# EAGLE library part LP4EE1RBATG (library other)
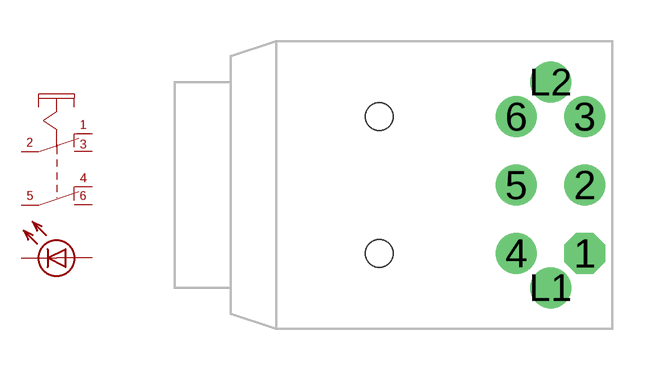
[diagram p12: symbol with the pads of LP4; footprint LP4]

Designator prefix SB

## LP4EE1RBATG  [LP4]
1  1  pas
2  2  pas
3  3  pas
4  4  pas
5  5  pas
6  6  pas
L1  L1  pas
L2  L2  pas

## Footprint LP4 (pad centres in mm)
drill 0.9 pad 1.5 octagon: 1 7.5,-2.5
drill 0.9 pad 1.5: 2 7.5,0; 3 7.5,2.5; 4 5,-2.5; 5 5,0; 6 5,2.5; L1 6.25,-3.75; L2 6.25,3.75
hole 1 at 0,-2.5
hole 1 at 0,2.5